# EAGLE library part LMX9820A* (library DAC)
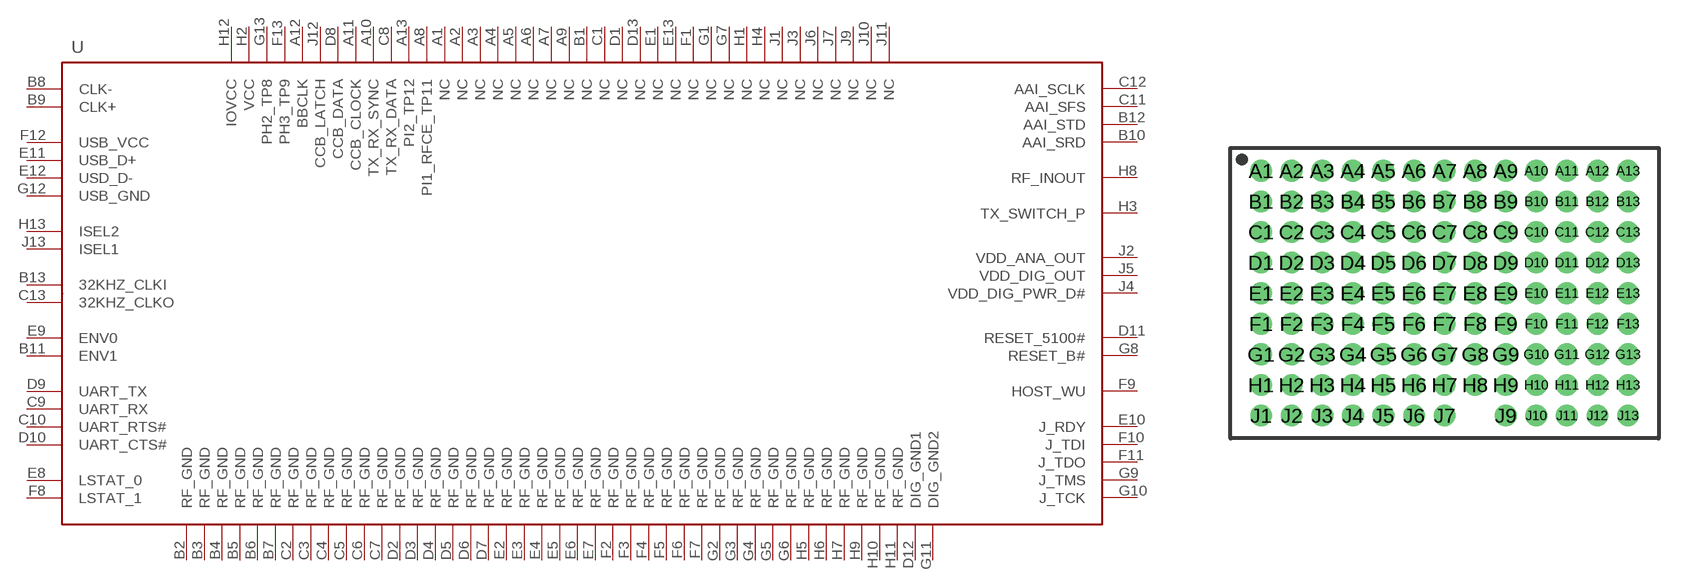
[diagram p7: symbol with the pads of BGA116; footprint BGA116]

Designator prefix U

## LMX9820A  [BGA116]
A1  NC  nc
A2  NC  nc
A3  NC  nc
A4  NC  nc
A5  NC  nc
A6  NC  nc
A7  NC  nc
A8  PI1_RFCE_TP11
A9  NC  nc
A10  TX_RX_SYNC
A11  CCB_CLOCK
A12  BBCLK
A13  PI2_TP12
B1  NC  nc
B2  RF_GND  sup
B3  RF_GND  sup
B4  RF_GND  sup
B5  RF_GND  sup
B6  RF_GND  sup
B7  RF_GND  sup
B8  CLK-  in
B9  CLK+  in
B10  AAI_SRD  in
B11  ENV1  in
B12  AAI_STD  out
B13  32KHZ_CLKI  in
C1  NC  nc
C2  RF_GND  sup
C3  RF_GND  sup
C4  RF_GND  sup
C5  RF_GND  sup
C6  RF_GND  sup
C7  RF_GND  sup
C8  TX_RX_DATA
C9  UART_RX  in
C10  UART_RTS#  out
C11  AAI_SFS
C12  AAI_SCLK
C13  32KHZ_CLKO  out
D1  NC  nc
D2  RF_GND  sup
D3  RF_GND  sup
D4  RF_GND  sup
D5  RF_GND  sup
D6  RF_GND  sup
D7  RF_GND  sup
D8  CCB_DATA
D9  UART_TX  out
D10  UART_CTS#  in
D11  RESET_5100#  in
D12  DIG_GND1  sup
D13  NC  nc
E1  NC  nc
E2  RF_GND  sup
E3  RF_GND  sup
E4  RF_GND  sup
E5  RF_GND  sup
E6  RF_GND  sup
E7  RF_GND  sup
E8  LSTAT_0  out
E9  ENV0  in
E10  J_RDY  out
E11  USB_D+
E12  USD_D-
E13  NC  nc
F1  NC  nc
F2  RF_GND  sup
F3  RF_GND  sup
F4  RF_GND  sup
F5  RF_GND  sup
F6  RF_GND  sup
F7  RF_GND  sup
F8  LSTAT_1  out
F9  HOST_WU  out
F10  J_TDI  in
F11  J_TDO
F12  USB_VCC  pwr
F13  PH3_TP9
G1  NC  nc
G2  RF_GND  sup
G3  RF_GND  sup
G4  RF_GND  sup
G5  RF_GND  sup
G6  RF_GND  sup
G7  NC  nc
G8  RESET_B#  in
G9  J_TMS
G10  J_TCK  in
G11  DIG_GND2  sup
G12  USB_GND  sup
G13  PH2_TP8
H1  NC  nc
H2  VCC  pwr
H3  TX_SWITCH_P  out
H4  NC  nc
H5  RF_GND  sup
H6  RF_GND  sup
H7  RF_GND  sup
H8  RF_INOUT
H9  RF_GND  sup
H10  RF_GND  sup
H11  RF_GND  sup
H12  IOVCC  pwr
H13  ISEL2  in
J1  NC  nc
J2  VDD_ANA_OUT  out
J3  NC  nc
J4  VDD_DIG_PWR_D#  in
J5  VDD_DIG_OUT  out
J6  NC  nc
J7  NC  nc
J9  NC  nc
J10  NC  nc
J11  NC  nc
J12  CCB_LATCH
J13  ISEL1  in

## Footprint BGA116 (pad centres in mm)
drill 0.203 pad 0.61 round: A1 -6,4; A2 -5,4; A3 -4,4; A4 -3,4; A5 -2,4; A6 -1,4; A7 0,4; A8 1,4; A9 2,4; A10 3,4; A11 4,4; A12 5,4; A13 6,4; B1 -6,3; B2 -5,3; B3 -4,3; B4 -3,3; B5 -2,3; B6 -1,3; B7 0,3; B8 1,3; B9 2,3; B10 3,3; B11 4,3; B12 5,3; B13 6,3; C1 -6,2; C2 -5,2; C3 -4,2; C4 -3,2; C5 -2,2; C6 -1,2; C7 0,2; C8 1,2; C9 2,2; C10 3,2; C11 4,2; C12 5,2; C13 6,2; D1 -6,1; D2 -5,1; D3 -4,1; D4 -3,1; D5 -2,1; D6 -1,1; D7 0,1; D8 1,1; D9 2,1; D10 3,1; D11 4,1; D12 5,1; D13 6,1; E1 -6,0; E2 -5,0; E3 -4,0; E4 -3,0; E5 -2,0; E6 -1,0; E7 0,0; E8 1,0; E9 2,0; E10 3,0; E11 4,0; E12 5,0; E13 6,0; F1 -6,-1; F2 -5,-1; F3 -4,-1; F4 -3,-1; F5 -2,-1; F6 -1,-1; F7 0,-1; F8 1,-1; F9 2,-1; F10 3,-1; F11 4,-1; F12 5,-1; F13 6,-1; G1 -6,-2; G2 -5,-2; G3 -4,-2; G4 -3,-2; G5 -2,-2; G6 -1,-2; G7 0,-2; G8 1,-2; G9 2,-2; G10 3,-2; G11 4,-2; G12 5,-2; G13 6,-2; H1 -6,-3; H2 -5,-3; H3 -4,-3; H4 -3,-3; H5 -2,-3; H6 -1,-3; H7 0,-3; H8 1,-3; H9 2,-3; H10 3,-3; H11 4,-3; H12 5,-3; H13 6,-3; J1 -6,-4; J2 -5,-4; J3 -4,-4; J4 -3,-4; J5 -2,-4; J6 -1,-4; J7 0,-4; J9 2,-4; J10 3,-4; J11 4,-4; J12 5,-4; J13 6,-4